# EAGLE library part 620110131822 (library Wire-to-Board (rev18a))
WR-WTB 2.00mm SMT Male Horizontal Shrouded Header, 10 Pins=>Code : Con_WTB_2.00_PCB_SMT_620110131822 <http://katalog.we-online.de/media/thumbs2/eican/thb_Con_WTB_2.00_PCB_SMT_6201xx131822_pf2.jpg> Details see: http://katalog.we-online.de/en/em/WTB_2_00_SMT_MALE_HORIZONTAL_SHROUDED_HEADER_6201XX131822 Created 2014-06-05, Karrer Zheng 2014 (C) Würth Elektronik
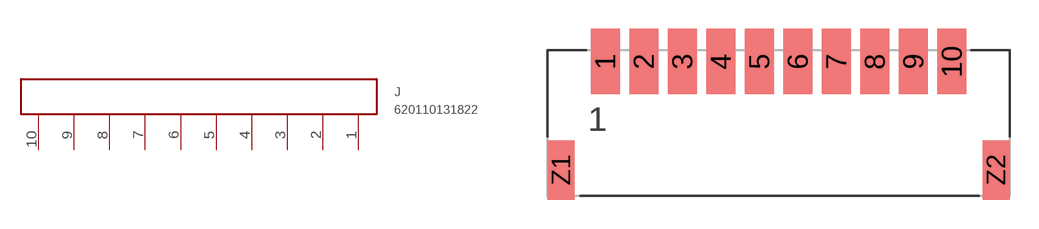
[diagram p44: symbol with the pads of 620110131822; footprint 620110131822]

Designator prefix J

## 620110131822  [620110131822]
1  10  pas
2  9  pas
3  8  pas
4  7  pas
5  6  pas
6  5  pas
7  4  pas
8  3  pas
9  2  pas
10  1  pas

## Footprint 620110131822 (pad centres in mm)
WR-WTB 2.00mm SMT Male Horizontal Shrouded Header, 10 Pins
smd 1.5 x 3.4: 1 -9,0; 2 -7,0; 3 -5,0; 4 -3,0; 5 -1,0; 6 1,0; 7 3,0; 8 5,0; 9 7,0; 10 9,0
smd 1.4 x 3.1: Z1 -11.3,-5.65; Z2 11.3,-5.65